# EAGLE library part DST5012A (library lcd)
LCD: 1.77"TFT, Transmissive Operation temp: -20°C~70°C Storage temp: -30°C~80°C Main LCD driver: Renesas R61514 Backlight: 2 chip-white LED (2*15mA, 3.2V) Power-supply voltage: 2.8~3.3V (~15mA)
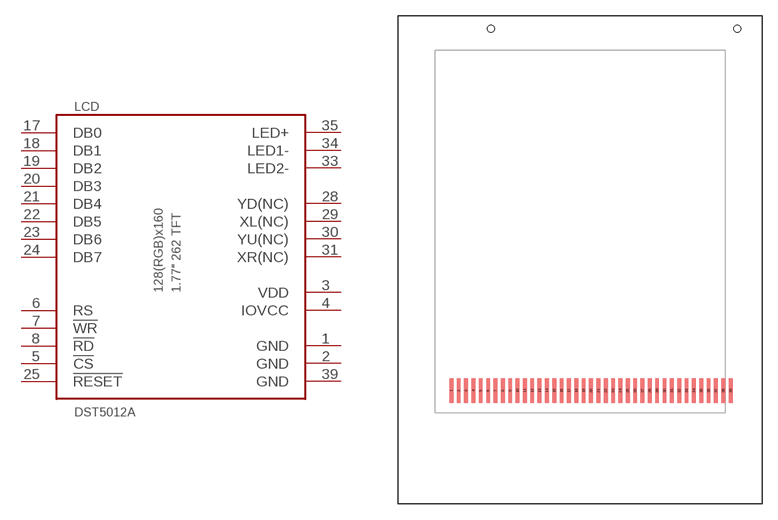
[diagram p5: symbol with the pads of DST5012; footprint DST5012]

Designator prefix LCD

## DST5012A-NH  [DST5012]
1  GND  pwr
2  GND  pwr
3  VDD  pwr
4  IOVCC  pwr
5  !CS  in
6  RS  in
7  !WR  in
8  !RD  in
17  DB0
18  DB1
19  DB2
20  DB3
21  DB4
22  DB5
23  DB6
24  DB7
25  !RESET  in
28  YD(NC)  pas
29  XL(NC)  pas
30  YU(NC)  pas
31  XR(NC)  pas
33  LED2-  pas
34  LED1-  pas
35  LED+  pas
39  GND  pwr

## Footprint DST5012 (pad centres in mm)
smd 0.37 x 2.4: 1 -12.425,0; 2 -11.715,0; 3 -11.005,0; 4 -10.295,0; 5 -9.585,0; 6 -8.875,0; 7 -8.165,0; 8 -7.455,0; 9 -6.745,0; 10 -6.035,0; 11 -5.325,0; 12 -4.615,0; 13 -3.905,0; 14 -3.195,0; 15 -2.485,0; 16 -1.775,0; 17 -1.065,0; 18 -0.355,0; 19 0.355,0; 20 1.065,0; 21 1.775,0; 22 2.485,0; 23 3.195,0; 24 3.905,0; 25 4.615,0; 26 5.325,0; 27 6.035,0; 28 6.745,0; 29 7.455,0; 30 8.165,0; 31 8.875,0; 32 9.585,0; 33 10.295,0; 34 11.005,0; 35 11.715,0; 36 12.425,0; 37 13.135,0; 38 13.845,0; 39 14.555,0
hole 0.7 at 15.19,34.975
hole 0.7 at -8.59,34.975